# Altium schematic symbol library Device.SchLib: 594 symbols (part 3 of 3)
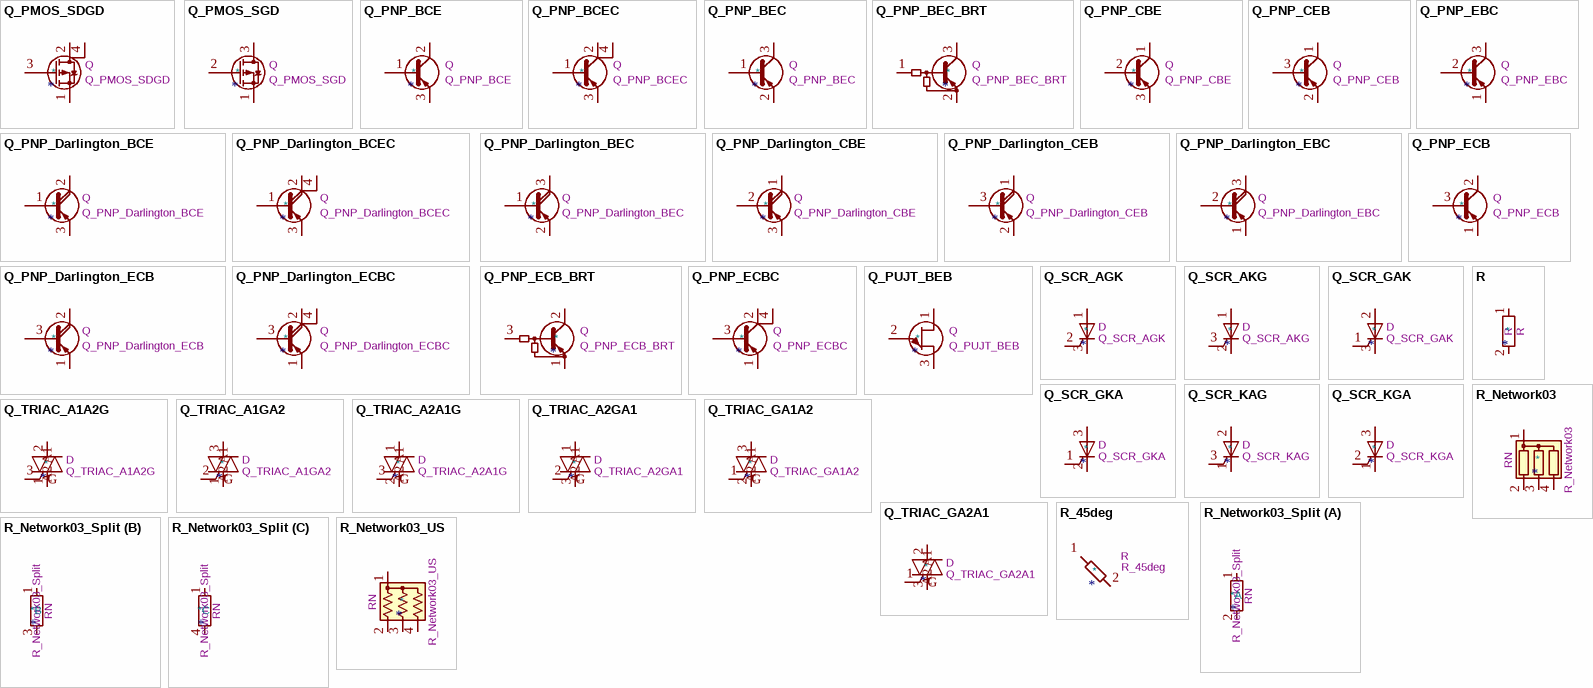
[diagram p21: symbols Q_PMOS_SDGD to R_Network03_US]

## Q_PUJT_BEB
designator *  value Q_PUJT_BEB  Reference: Q
ki_keywords: transistor UJT; ki_description: P-Type unijunction transistor; Datasheet: ~
pins: 1 B2, 2 E, 3 B1

## Q_SCR_AGK
designator *  value Q_SCR_AGK  Reference: D
ki_keywords: SCR thyristor; ki_description: Silicon controlled rectifier, anode/gate/cathode; Datasheet: ~
pins: 1 A, 2 G, 3 K

## Q_SCR_AKG
designator *  value Q_SCR_AKG  Reference: D
ki_keywords: SCR thyristor; ki_description: Silicon controlled rectifier, anode/cathode/gate; Datasheet: ~
pins: 1 A, 2 K, 3 G

## Q_SCR_GAK
designator *  value Q_SCR_GAK  Reference: D
ki_keywords: SCR thyristor; ki_description: Silicon controlled rectifier, gate/anode/cathode; Datasheet: ~
pins: 1 G, 2 A, 3 K

## Q_SCR_GKA
designator *  value Q_SCR_GKA  Reference: D
ki_keywords: SCR thyristor; ki_description: Silicon controlled rectifier, gate/cathode/anode; Datasheet: ~
pins: 1 G, 2 K, 3 A

## Q_SCR_KAG
designator *  value Q_SCR_KAG  Reference: D
ki_keywords: SCR thyristor; ki_description: Silicon controlled rectifier, cathode/anode/gate; Datasheet: ~
pins: 1 K, 2 A, 3 G

## Q_SCR_KGA
designator *  value Q_SCR_KGA  Reference: D
ki_keywords: SCR thyristor; ki_description: Silicon controlled rectifier, cathode/gate/anode; Datasheet: ~
pins: 1 K, 2 G, 3 A

## Q_TRIAC_A1A2G
designator *  value Q_TRIAC_A1A2G  Reference: D
ki_keywords: TRIAC; ki_description: Triode for alternating current, anode1/anode2/gate; Datasheet: ~
pins: 1 A1, 2 A2, 3 G

## Q_TRIAC_A1GA2
designator *  value Q_TRIAC_A1GA2  Reference: D
ki_keywords: TRIAC; ki_description: Triode for alternating current, anode1/gate/anode2; Datasheet: ~
pins: 1 A1, 2 G, 3 A2

## Q_TRIAC_A2A1G
designator *  value Q_TRIAC_A2A1G  Reference: D
ki_keywords: TRIAC; ki_description: Triode for alternating current, anode2/anode1/gate; Datasheet: ~
pins: 1 A2, 2 A1, 3 G

## Q_TRIAC_A2GA1
designator *  value Q_TRIAC_A2GA1  Reference: D
ki_keywords: TRIAC; ki_description: Triode for alternating current, anode2/gate/anode1; Datasheet: ~
pins: 1 A2, 2 G, 3 A1

## Q_TRIAC_GA1A2
designator *  value Q_TRIAC_GA1A2  Reference: D
ki_keywords: TRIAC; ki_description: Triode for alternating current, gate/anode1/anode2; Datasheet: ~
pins: 1 G, 2 A1, 3 A2

## Q_TRIAC_GA2A1
designator *  value Q_TRIAC_GA2A1  Reference: D
ki_keywords: TRIAC; ki_description: Triode for alternating current, gate/anode2/anode1; Datasheet: ~
pins: 1 G, 2 A2, 3 A1

## R
designator *  value R
ki_keywords: R res resistor; ki_description: Resistor; ki_fp_filters: R_*; Reference: R; Datasheet: ~
pins: 1, 2

## R_45deg
designator *  value R_45deg  Reference: R
ki_keywords: R res resistor diagonal; ki_description: Resistor, rotated by 45°; ki_fp_filters: R_*; Datasheet: ~
pins: 1, 2

## R_Network03
designator *  value R_Network03  Reference: RN
ki_keywords: R network star-topology; ki_description: 3 resistor network, star topology, bussed resistors, small symbol; ki_fp_filters: R?Array?SIP*; Footprint: Resistor_THT:R_Array_SIP4; Datasheet: http://www.vishay.com/docs/31509/csc.pdf
pins: 1 common, 2 R1, 3 R2, 4 R3

## R_Network03_Split
designator *  value R_Network03_Split  Reference: RN
ki_keywords: R network star-topology; ki_description: 3 resistor network, star topology, bussed resistors, split; ki_fp_filters: R?Array?SIP*; Footprint: Resistor_THT:R_Array_SIP4; Datasheet: http://www.vishay.com/docs/31509/csc.pdf
part A pins: 1 R1, 2 R1.2
part B pins: 1 R1, 3 R2.2
part C pins: 1 R1, 4 R3.2

## R_Network03_US
designator *  value R_Network03_US  Reference: RN
ki_keywords: R network star-topology; ki_description: 3 resistor network, star topology, bussed resistors, small US symbol; ki_fp_filters: R?Array?SIP*; Footprint: Resistor_THT:R_Array_SIP4; Datasheet: http://www.vishay.com/docs/31509/csc.pdf
pins: 1 common, 2 R1, 3 R2, 4 R3

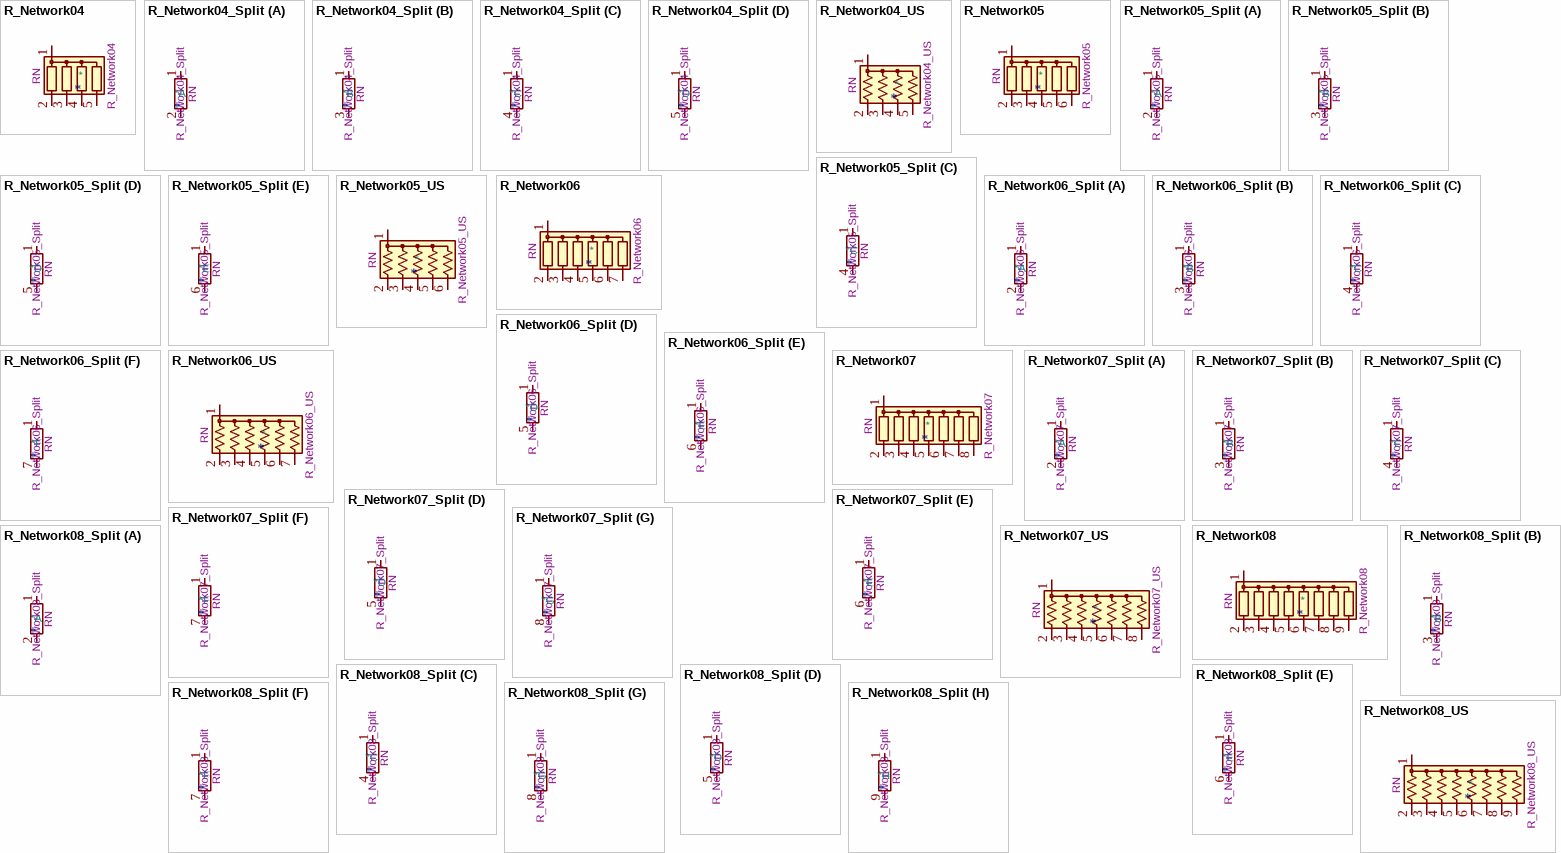
[diagram p13: symbols R_Network04 to R_Network08_US]

## R_Network04
designator *  value R_Network04  Reference: RN
ki_keywords: R network star-topology; ki_description: 4 resistor network, star topology, bussed resistors, small symbol; ki_fp_filters: R?Array?SIP*; Footprint: Resistor_THT:R_Array_SIP5; Datasheet: http://www.vishay.com/docs/31509/csc.pdf
pins: 1 common, 2 R1, 3 R2, 4 R3, 5 R4

## R_Network04_Split
designator *  value R_Network04_Split  Reference: RN
ki_keywords: R network star-topology; ki_description: 4 resistor network, star topology, bussed resistors, split; ki_fp_filters: R?Array?SIP*; Footprint: Resistor_THT:R_Array_SIP5; Datasheet: http://www.vishay.com/docs/31509/csc.pdf
part A pins: 1 R1, 2 R1.2
part B pins: 1 R1, 3 R2.2
part C pins: 1 R1, 4 R3.2
part D pins: 1 R1, 5 R4.2

## R_Network04_US
designator *  value R_Network04_US  Reference: RN
ki_keywords: R network star-topology; ki_description: 4 resistor network, star topology, bussed resistors, small US symbol; ki_fp_filters: R?Array?SIP*; Footprint: Resistor_THT:R_Array_SIP5; Datasheet: http://www.vishay.com/docs/31509/csc.pdf
pins: 1 common, 2 R1, 3 R2, 4 R3, 5 R4

## R_Network05
designator *  value R_Network05  Reference: RN
ki_keywords: R network star-topology; ki_description: 5 resistor network, star topology, bussed resistors, small symbol; ki_fp_filters: R?Array?SIP*; Footprint: Resistor_THT:R_Array_SIP6; Datasheet: http://www.vishay.com/docs/31509/csc.pdf
pins: 1 common, 2 R1, 3 R2, 4 R3, 5 R4, 6 R5

## R_Network05_Split
designator *  value R_Network05_Split  Reference: RN
ki_keywords: R network star-topology; ki_description: 5 resistor network, star topology, bussed resistors, split; ki_fp_filters: R?Array?SIP*; Footprint: Resistor_THT:R_Array_SIP6; Datasheet: http://www.vishay.com/docs/31509/csc.pdf
part A pins: 1 R1, 2 R1.2
part B pins: 1 R1, 3 R2.2
part C pins: 1 R1, 4 R3.2
part D pins: 1 R1, 5 R4.2
part E pins: 1 R1, 6 R5.2

## R_Network05_US
designator *  value R_Network05_US  Reference: RN
ki_keywords: R network star-topology; ki_description: 5 resistor network, star topology, bussed resistors, small US symbol; ki_fp_filters: R?Array?SIP*; Footprint: Resistor_THT:R_Array_SIP6; Datasheet: http://www.vishay.com/docs/31509/csc.pdf
pins: 1 common, 2 R1, 3 R2, 4 R3, 5 R4, 6 R5

## R_Network06
designator *  value R_Network06  Reference: RN
ki_keywords: R network star-topology; ki_description: 6 resistor network, star topology, bussed resistors, small symbol; ki_fp_filters: R?Array?SIP*; Footprint: Resistor_THT:R_Array_SIP7; Datasheet: http://www.vishay.com/docs/31509/csc.pdf
pins: 1 common, 2 R1, 3 R2, 4 R3, 5 R4, 6 R5, 7 R6

## R_Network06_Split
designator *  value R_Network06_Split  Reference: RN
ki_keywords: R network star-topology; ki_description: 6 resistor network, star topology, bussed resistors, split; ki_fp_filters: R?Array?SIP*; Footprint: Resistor_THT:R_Array_SIP7; Datasheet: http://www.vishay.com/docs/31509/csc.pdf
part A pins: 1 R1, 2 R1.2
part B pins: 1 R1, 3 R2.2
part C pins: 1 R1, 4 R3.2
part D pins: 1 R1, 5 R4.2
part E pins: 1 R1, 6 R5.2
part F pins: 1 R1, 7 R6.2

## R_Network06_US
designator *  value R_Network06_US  Reference: RN
ki_keywords: R network star-topology; ki_description: 6 resistor network, star topology, bussed resistors, small US symbol; ki_fp_filters: R?Array?SIP*; Footprint: Resistor_THT:R_Array_SIP7; Datasheet: http://www.vishay.com/docs/31509/csc.pdf
pins: 1 common, 2 R1, 3 R2, 4 R3, 5 R4, 6 R5, 7 R6

## R_Network07
designator *  value R_Network07  Reference: RN
ki_keywords: R network star-topology; ki_description: 7 resistor network, star topology, bussed resistors, small symbol; ki_fp_filters: R?Array?SIP*; Footprint: Resistor_THT:R_Array_SIP8; Datasheet: http://www.vishay.com/docs/31509/csc.pdf
pins: 1 common, 2 R1, 3 R2, 4 R3, 5 R4, 6 R5, 7 R6, 8 R7

## R_Network07_Split
designator *  value R_Network07_Split  Reference: RN
ki_keywords: R network star-topology; ki_description: 7 resistor network, star topology, bussed resistors, split; ki_fp_filters: R?Array?SIP*; Footprint: Resistor_THT:R_Array_SIP8; Datasheet: http://www.vishay.com/docs/31509/csc.pdf
part A pins: 1 R1, 2 R1.2
part B pins: 1 R1, 3 R2.2
part C pins: 1 R1, 4 R3.2
part D pins: 1 R1, 5 R4.2
part E pins: 1 R1, 6 R5.2
part F pins: 1 R1, 7 R6.2
part G pins: 1 R1, 8 R7.2

## R_Network07_US
designator *  value R_Network07_US  Reference: RN
ki_keywords: R network star-topology; ki_description: 7 resistor network, star topology, bussed resistors, small US symbol; ki_fp_filters: R?Array?SIP*; Footprint: Resistor_THT:R_Array_SIP8; Datasheet: http://www.vishay.com/docs/31509/csc.pdf
pins: 1 common, 2 R1, 3 R2, 4 R3, 5 R4, 6 R5, 7 R6, 8 R7

## R_Network08
designator *  value R_Network08  Reference: RN
ki_keywords: R network star-topology; ki_description: 8 resistor network, star topology, bussed resistors, small symbol; ki_fp_filters: R?Array?SIP*; Footprint: Resistor_THT:R_Array_SIP9; Datasheet: http://www.vishay.com/docs/31509/csc.pdf
pins: 1 common, 2 R1, 3 R2, 4 R3, 5 R4, 6 R5, 7 R6, 8 R7, 9 R8

## R_Network08_Split
designator *  value R_Network08_Split  Reference: RN
ki_keywords: R network star-topology; ki_description: 8 resistor network, star topology, bussed resistors, split; ki_fp_filters: R?Array?SIP*; Footprint: Resistor_THT:R_Array_SIP9; Datasheet: http://www.vishay.com/docs/31509/csc.pdf
part A pins: 1 R1, 2 R1.2
part B pins: 1 R1, 3 R2.2
part C pins: 1 R1, 4 R3.2
part D pins: 1 R1, 5 R4.2
part E pins: 1 R1, 6 R5.2
part F pins: 1 R1, 7 R6.2
part G pins: 1 R1, 8 R7.2
part H pins: 1 R1, 9 R8.2

## R_Network08_US
designator *  value R_Network08_US  Reference: RN
ki_keywords: R network star-topology; ki_description: 8 resistor network, star topology, bussed resistors, small US symbol; ki_fp_filters: R?Array?SIP*; Footprint: Resistor_THT:R_Array_SIP9; Datasheet: http://www.vishay.com/docs/31509/csc.pdf
pins: 1 common, 2 R1, 3 R2, 4 R3, 5 R4, 6 R5, 7 R6, 8 R7, 9 R8

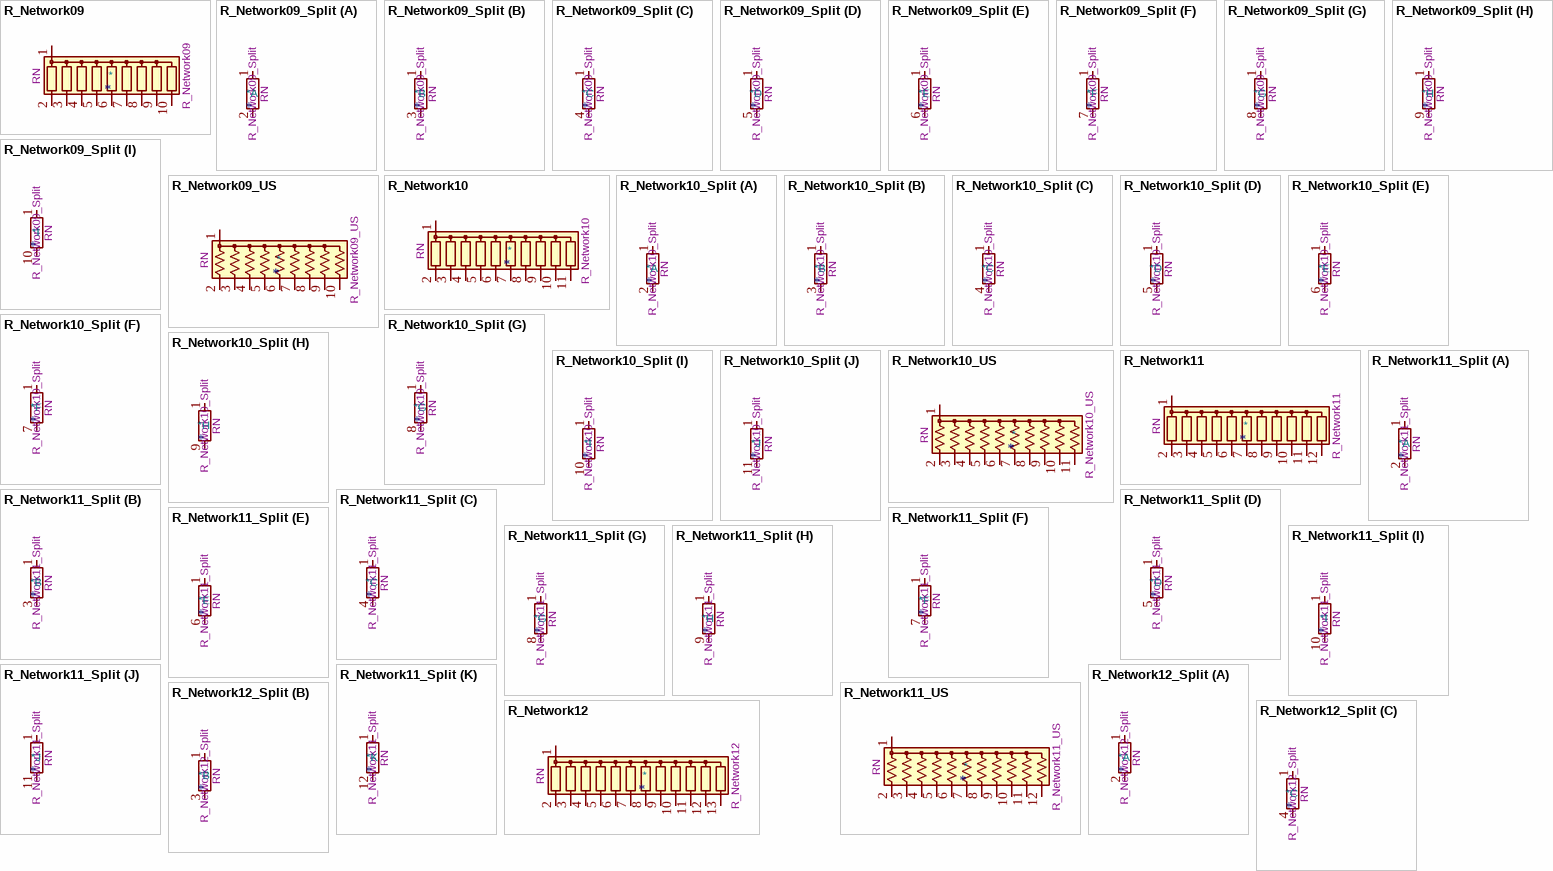
[diagram p14: symbols R_Network09 to R_Network12_Split]

## R_Network09
designator *  value R_Network09  Reference: RN
ki_keywords: R network star-topology; ki_description: 9 resistor network, star topology, bussed resistors, small symbol; ki_fp_filters: R?Array?SIP*; Footprint: Resistor_THT:R_Array_SIP10; Datasheet: http://www.vishay.com/docs/31509/csc.pdf
pins: 1 common, 2 R1, 3 R2, 4 R3, 5 R4, 6 R5, 7 R6, 8 R7, 9 R8, 10 R9

## R_Network09_Split
designator *  value R_Network09_Split  Reference: RN
ki_keywords: R network star-topology; ki_description: 9 resistor network, star topology, bussed resistors, split; ki_fp_filters: R?Array?SIP*; Footprint: Resistor_THT:R_Array_SIP10; Datasheet: http://www.vishay.com/docs/31509/csc.pdf
part A pins: 1 R1, 2 R1.2
part B pins: 1 R1, 3 R2.2
part C pins: 1 R1, 4 R3.2
part D pins: 1 R1, 5 R4.2
part E pins: 1 R1, 6 R5.2
part F pins: 1 R1, 7 R6.2
part G pins: 1 R1, 8 R7.2
part H pins: 1 R1, 9 R8.2
part I pins: 1 R1, 10 R9.2

## R_Network09_US
designator *  value R_Network09_US  Reference: RN
ki_keywords: R network star-topology; ki_description: 9 resistor network, star topology, bussed resistors, small US symbol; ki_fp_filters: R?Array?SIP*; Footprint: Resistor_THT:R_Array_SIP10; Datasheet: http://www.vishay.com/docs/31509/csc.pdf
pins: 1 common, 2 R1, 3 R2, 4 R3, 5 R4, 6 R5, 7 R6, 8 R7, 9 R8, 10 R9

## R_Network10
designator *  value R_Network10  Reference: RN
ki_keywords: R network star-topology; ki_description: 10 resistor network, star topology, bussed resistors, small symbol; ki_fp_filters: R?Array?SIP*; Footprint: Resistor_THT:R_Array_SIP11; Datasheet: http://www.vishay.com/docs/31509/csc.pdf
pins: 1 common, 2 R1, 3 R2, 4 R3, 5 R4, 6 R5, 7 R6, 8 R7, 9 R8, 10 R9, 11 R10

## R_Network10_Split
designator *  value R_Network10_Split  Reference: RN
ki_keywords: R network star-topology; ki_description: 10 resistor network, star topology, bussed resistors, split; ki_fp_filters: R?Array?SIP*; Footprint: Resistor_THT:R_Array_SIP11; Datasheet: http://www.vishay.com/docs/31509/csc.pdf
part A pins: 1 R1, 2 R1.2
part B pins: 1 R1, 3 R2.2
part C pins: 1 R1, 4 R3.2
part D pins: 1 R1, 5 R4.2
part E pins: 1 R1, 6 R5.2
part F pins: 1 R1, 7 R6.2
part G pins: 1 R1, 8 R7.2
part H pins: 1 R1, 9 R8.2
part I pins: 1 R1, 10 R9.2
part J pins: 1 R1, 11 R10.2

## R_Network10_US
designator *  value R_Network10_US  Reference: RN
ki_keywords: R network star-topology; ki_description: 10 resistor network, star topology, bussed resistors, small US symbol; ki_fp_filters: R?Array?SIP*; Footprint: Resistor_THT:R_Array_SIP11; Datasheet: http://www.vishay.com/docs/31509/csc.pdf
pins: 1 common, 2 R1, 3 R2, 4 R3, 5 R4, 6 R5, 7 R6, 8 R7, 9 R8, 10 R9, 11 R10

## R_Network11
designator *  value R_Network11  Reference: RN
ki_keywords: R network star-topology; ki_description: 11 resistor network, star topology, bussed resistors, small symbol; ki_fp_filters: R?Array?SIP*; Footprint: Resistor_THT:R_Array_SIP12; Datasheet: http://www.vishay.com/docs/31509/csc.pdf
pins: 1 common, 2 R1, 3 R2, 4 R3, 5 R4, 6 R5, 7 R6, 8 R7, 9 R8, 10 R9, 11 R10, 12 R11

## R_Network11_Split
designator *  value R_Network11_Split  Reference: RN
ki_keywords: R network star-topology; ki_description: 11 resistor network, star topology, bussed resistors, split; ki_fp_filters: R?Array?SIP*; Footprint: Resistor_THT:R_Array_SIP12; Datasheet: http://www.vishay.com/docs/31509/csc.pdf
part A pins: 1 R1, 2 R1.2
part B pins: 1 R1, 3 R2.2
part C pins: 1 R1, 4 R3.2
part D pins: 1 R1, 5 R4.2
part E pins: 1 R1, 6 R5.2
part F pins: 1 R1, 7 R6.2
part G pins: 1 R1, 8 R7.2
part H pins: 1 R1, 9 R8.2
part I pins: 1 R1, 10 R9.2
part J pins: 1 R1, 11 R10.2
part K pins: 1 R1, 12 R11.2

## R_Network11_US
designator *  value R_Network11_US  Reference: RN
ki_keywords: R network star-topology; ki_description: 11 resistor network, star topology, bussed resistors, small US symbol; ki_fp_filters: R?Array?SIP*; Footprint: Resistor_THT:R_Array_SIP12; Datasheet: http://www.vishay.com/docs/31509/csc.pdf
pins: 1 common, 2 R1, 3 R2, 4 R3, 5 R4, 6 R5, 7 R6, 8 R7, 9 R8, 10 R9, 11 R10, 12 R11

## R_Network12
designator *  value R_Network12  Reference: RN
ki_keywords: R network star-topology; ki_description: 12 resistor network, star topology, bussed resistors, small symbol; ki_fp_filters: R?Array?SIP*; Footprint: Resistor_THT:R_Array_SIP13; Datasheet: http://www.vishay.com/docs/31509/csc.pdf
pins: 1 common, 2 R1, 3 R2, 4 R3, 5 R4, 6 R5, 7 R6, 8 R7, 9 R8, 10 R9, 11 R10, 12 R11, 13 R12

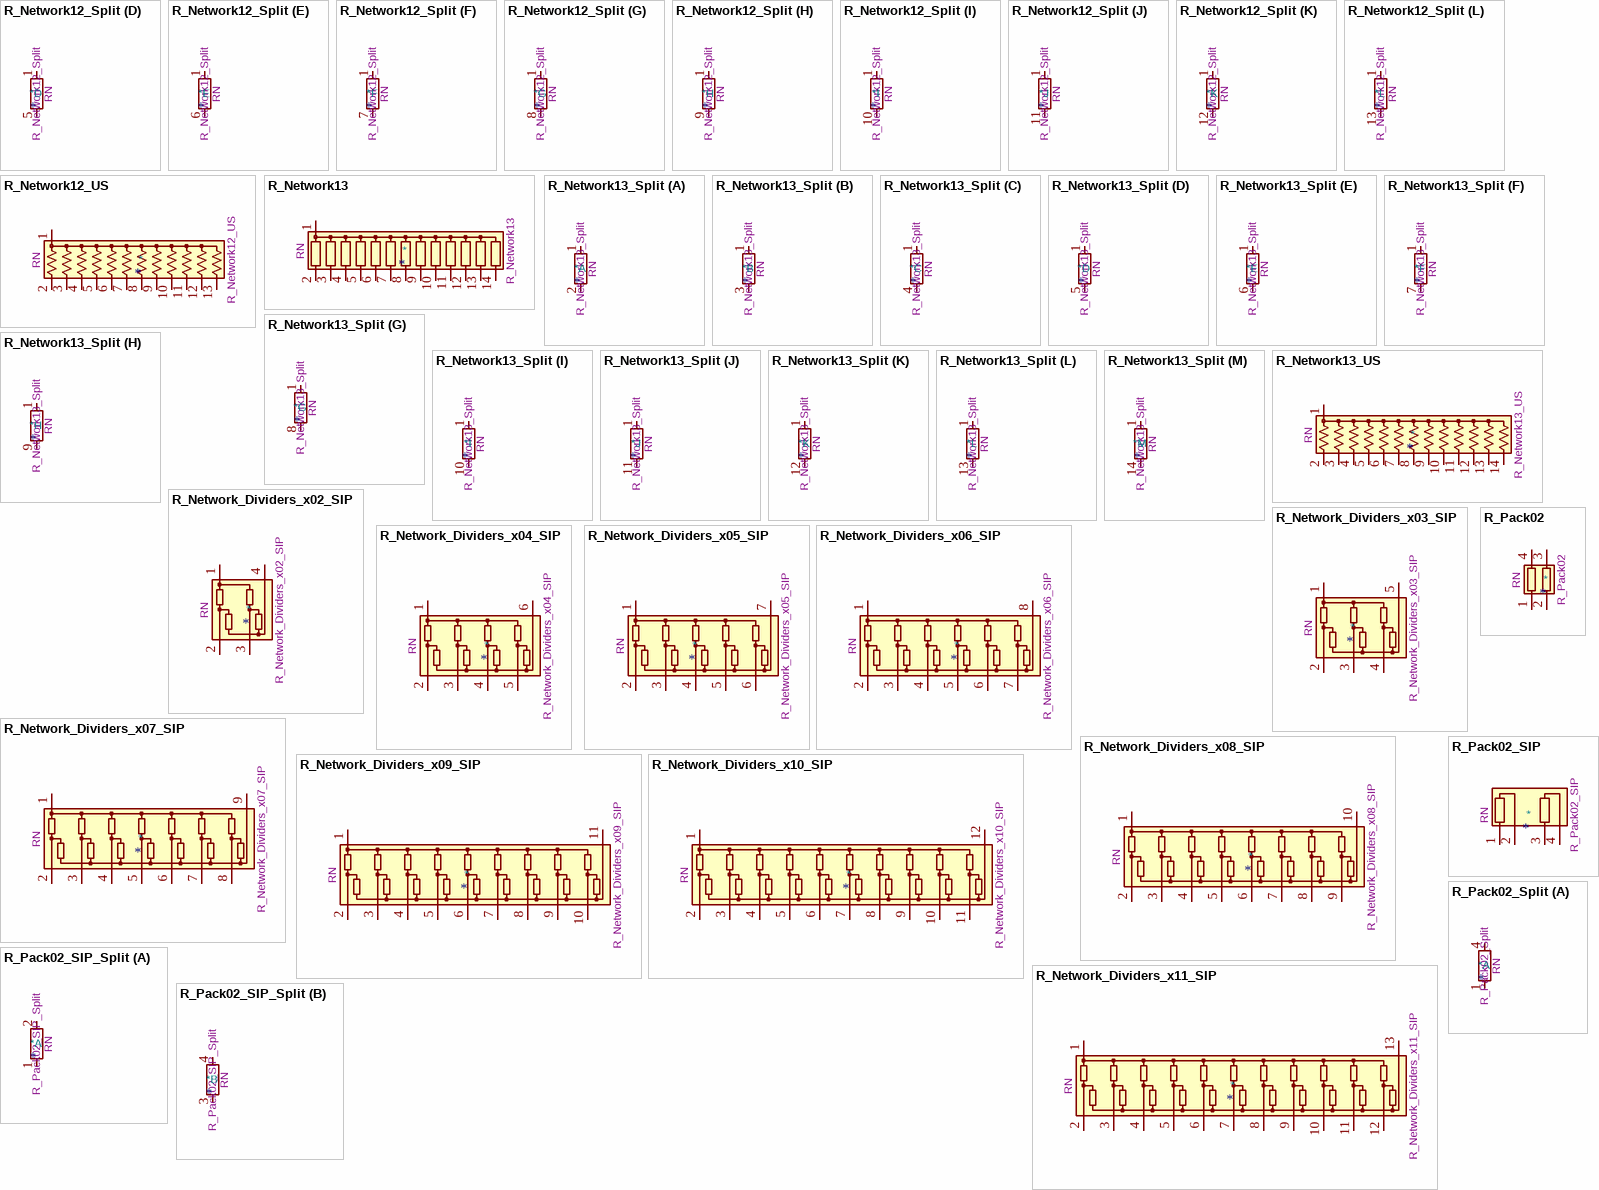
[diagram p15: symbols R_Network12_Split to R_Pack02_Split]

## R_Network12_Split
designator *  value R_Network12_Split  Reference: RN
ki_keywords: R network star-topology; ki_description: 12 resistor network, star topology, bussed resistors, split; ki_fp_filters: R?Array?SIP*; Footprint: Resistor_THT:R_Array_SIP13; Datasheet: http://www.vishay.com/docs/31509/csc.pdf
part A pins: 1 R1, 2 R1.2
part B pins: 1 R1, 3 R2.2
part C pins: 1 R1, 4 R3.2
part D pins: 1 R1, 5 R4.2
part E pins: 1 R1, 6 R5.2
part F pins: 1 R1, 7 R6.2
part G pins: 1 R1, 8 R7.2
part H pins: 1 R1, 9 R8.2
part I pins: 1 R1, 10 R9.2
part J pins: 1 R1, 11 R10.2
part K pins: 1 R1, 12 R11.2
part L pins: 1 R1, 13 R12.2

## R_Network12_US
designator *  value R_Network12_US  Reference: RN
ki_keywords: R network star-topology; ki_description: 12 resistor network, star topology, bussed resistors, small US symbol; ki_fp_filters: R?Array?SIP*; Footprint: Resistor_THT:R_Array_SIP13; Datasheet: http://www.vishay.com/docs/31509/csc.pdf
pins: 1 common, 2 R1, 3 R2, 4 R3, 5 R4, 6 R5, 7 R6, 8 R7, 9 R8, 10 R9, 11 R10, 12 R11, 13 R12

## R_Network13
designator *  value R_Network13  Reference: RN
ki_keywords: R network star-topology; ki_description: 13 resistor network, star topology, bussed resistors, small symbol; ki_fp_filters: R?Array?SIP*; Footprint: Resistor_THT:R_Array_SIP14; Datasheet: http://www.vishay.com/docs/31509/csc.pdf
pins: 1 common, 2 R1, 3 R2, 4 R3, 5 R4, 6 R5, 7 R6, 8 R7, 9 R8, 10 R9, 11 R10, 12 R11, 13 R12, 14 R13

## R_Network13_Split
designator *  value R_Network13_Split  Reference: RN
ki_keywords: R network star-topology; ki_description: 13 resistor network, star topology, bussed resistors, split; ki_fp_filters: R?Array?SIP*; Footprint: Resistor_THT:R_Array_SIP14; Datasheet: http://www.vishay.com/docs/31509/csc.pdf
part A pins: 1 R1, 2 R1.2
part B pins: 1 R1, 3 R2.2
part C pins: 1 R1, 4 R3.2
part D pins: 1 R1, 5 R4.2
part E pins: 1 R1, 6 R5.2
part F pins: 1 R1, 7 R6.2
part G pins: 1 R1, 8 R7.2
part H pins: 1 R1, 9 R8.2
part I pins: 1 R1, 10 R9.2
part J pins: 1 R1, 11 R10.2
part K pins: 1 R1, 12 R11.2
part L pins: 1 R1, 13 R12.2
part M pins: 1 R1, 14 R13.2

## R_Network13_US
designator *  value R_Network13_US  Reference: RN
ki_keywords: R network star-topology; ki_description: 13 resistor network, star topology, bussed resistors, small US symbol; ki_fp_filters: R?Array?SIP*; Footprint: Resistor_THT:R_Array_SIP14; Datasheet: http://www.vishay.com/docs/31509/csc.pdf
pins: 1 common, 2 R1, 3 R2, 4 R3, 5 R4, 6 R5, 7 R6, 8 R7, 9 R8, 10 R9, 11 R10, 12 R11, 13 R12, 14 R13

## R_Network_Dividers_x02_SIP
designator *  value R_Network_Dividers_x02_SIP  Reference: RN
ki_keywords: R network divider topology; ki_description: 2 voltage divider network, dual terminator, SIP package; ki_fp_filters: R?Array?SIP*; Footprint: Resistor_THT:R_Array_SIP4; Datasheet: http://www.vishay.com/docs/31509/csc.pdf
pins: 1 COM1, 2 R1, 3 R2, 4 COM2

## R_Network_Dividers_x03_SIP
designator *  value R_Network_Dividers_x03_SIP  Reference: RN
ki_keywords: R network divider topology; ki_description: 3 voltage divider network, dual terminator, SIP package; ki_fp_filters: R?Array?SIP*; Footprint: Resistor_THT:R_Array_SIP5; Datasheet: http://www.vishay.com/docs/31509/csc.pdf
pins: 1 COM1, 2 R1, 3 R2, 4 R3, 5 COM2

## R_Network_Dividers_x04_SIP
designator *  value R_Network_Dividers_x04_SIP  Reference: RN
ki_keywords: R network divider topology; ki_description: 4 voltage divider network, dual terminator, SIP package; ki_fp_filters: R?Array?SIP*; Footprint: Resistor_THT:R_Array_SIP6; Datasheet: http://www.vishay.com/docs/31509/csc.pdf
pins: 1 COM1, 2 R1, 3 R2, 4 R3, 5 R4, 6 COM2

## R_Network_Dividers_x05_SIP
designator *  value R_Network_Dividers_x05_SIP  Reference: RN
ki_keywords: R network divider topology; ki_description: 5 voltage divider network, dual terminator, SIP package; ki_fp_filters: R?Array?SIP*; Footprint: Resistor_THT:R_Array_SIP7; Datasheet: http://www.vishay.com/docs/31509/csc.pdf
pins: 1 COM1, 2 R1, 3 R2, 4 R3, 5 R4, 6 R5, 7 COM2

## R_Network_Dividers_x06_SIP
designator *  value R_Network_Dividers_x06_SIP  Reference: RN
ki_keywords: R network divider topology; ki_description: 6 voltage divider network, dual terminator, SIP package; ki_fp_filters: R?Array?SIP*; Footprint: Resistor_THT:R_Array_SIP8; Datasheet: http://www.vishay.com/docs/31509/csc.pdf
pins: 1 COM1, 2 R1, 3 R2, 4 R3, 5 R4, 6 R5, 7 R6, 8 COM2

## R_Network_Dividers_x07_SIP
designator *  value R_Network_Dividers_x07_SIP  Reference: RN
ki_keywords: R network divider topology; ki_description: 7 voltage divider network, dual terminator, SIP package; ki_fp_filters: R?Array?SIP*; Footprint: Resistor_THT:R_Array_SIP9; Datasheet: http://www.vishay.com/docs/31509/csc.pdf
pins: 1 COM1, 2 R1, 3 R2, 4 R3, 5 R4, 6 R5, 7 R6, 8 R7, 9 COM2

## R_Network_Dividers_x08_SIP
designator *  value R_Network_Dividers_x08_SIP  Reference: RN
ki_keywords: R network divider topology; ki_description: 8 voltage divider network, dual terminator, SIP package; ki_fp_filters: R?Array?SIP*; Footprint: Resistor_THT:R_Array_SIP10; Datasheet: http://www.vishay.com/docs/31509/csc.pdf
pins: 1 COM1, 2 R1, 3 R2, 4 R3, 5 R4, 6 R5, 7 R6, 8 R7, 9 R8, 10 COM2

## R_Network_Dividers_x09_SIP
designator *  value R_Network_Dividers_x09_SIP  Reference: RN
ki_keywords: R network divider topology; ki_description: 9 voltage divider network, dual terminator, SIP package; ki_fp_filters: R?Array?SIP*; Footprint: Resistor_THT:R_Array_SIP11; Datasheet: http://www.vishay.com/docs/31509/csc.pdf
pins: 1 COM1, 2 R1, 3 R2, 4 R3, 5 R4, 6 R5, 7 R6, 8 R7, 9 R8, 10 R9, 11 COM2

## R_Network_Dividers_x10_SIP
designator *  value R_Network_Dividers_x10_SIP  Reference: RN
ki_keywords: R network divider topology; ki_description: 10 voltage divider network, dual terminator, SIP package; ki_fp_filters: R?Array?SIP*; Footprint: Resistor_THT:R_Array_SIP12; Datasheet: http://www.vishay.com/docs/31509/csc.pdf
pins: 1 COM1, 2 R1, 3 R2, 4 R3, 5 R4, 6 R5, 7 R6, 8 R7, 9 R8, 10 R9, 11 R10, 12 COM2

## R_Network_Dividers_x11_SIP
designator *  value R_Network_Dividers_x11_SIP  Reference: RN
ki_keywords: R network divider topology; ki_description: 11 voltage divider network, dual terminator, SIP package; ki_fp_filters: R?Array?SIP*; Footprint: Resistor_THT:R_Array_SIP13; Datasheet: http://www.vishay.com/docs/31509/csc.pdf
pins: 1 COM1, 2 R1, 3 R2, 4 R3, 5 R4, 6 R5, 7 R6, 8 R7, 9 R8, 10 R9, 11 R10, 12 R11, 13 COM2

## R_Pack02
designator *  value R_Pack02  Reference: RN
ki_keywords: R network parallel topology isolated; ki_description: 2 resistor network, parallel topology; ki_fp_filters: DIP* SOIC* R*Array*Concave* R*Array*Convex*; Datasheet: ~
pins: 1 R1.1, 2 R2.1, 3 R2.2, 4 R1.2

## R_Pack02_SIP
designator *  value R_Pack02_SIP  Reference: RN
ki_keywords: R network parallel topology isolated; ki_description: 2 resistor network, parallel topology, SIP package; ki_fp_filters: R?Array?SIP*; Footprint: Resistor_THT:R_Array_SIP4; Datasheet: http://www.vishay.com/docs/31509/csc.pdf
pins: 1 R1.1, 2 R1.2, 3 R2.1, 4 R2.2

## R_Pack02_SIP_Split
designator *  value R_Pack02_SIP_Split  Reference: RN
ki_keywords: R network parallel topology isolated; ki_description: 2 resistor network, parallel topology, SIP package, split; ki_fp_filters: R?Array?SIP*; Footprint: Resistor_THT:R_Array_SIP4; Datasheet: http://www.vishay.com/docs/31509/csc.pdf
part A pins: 1 R1.1, 2 R1.2
part B pins: 3 R2.1, 4 R2.2

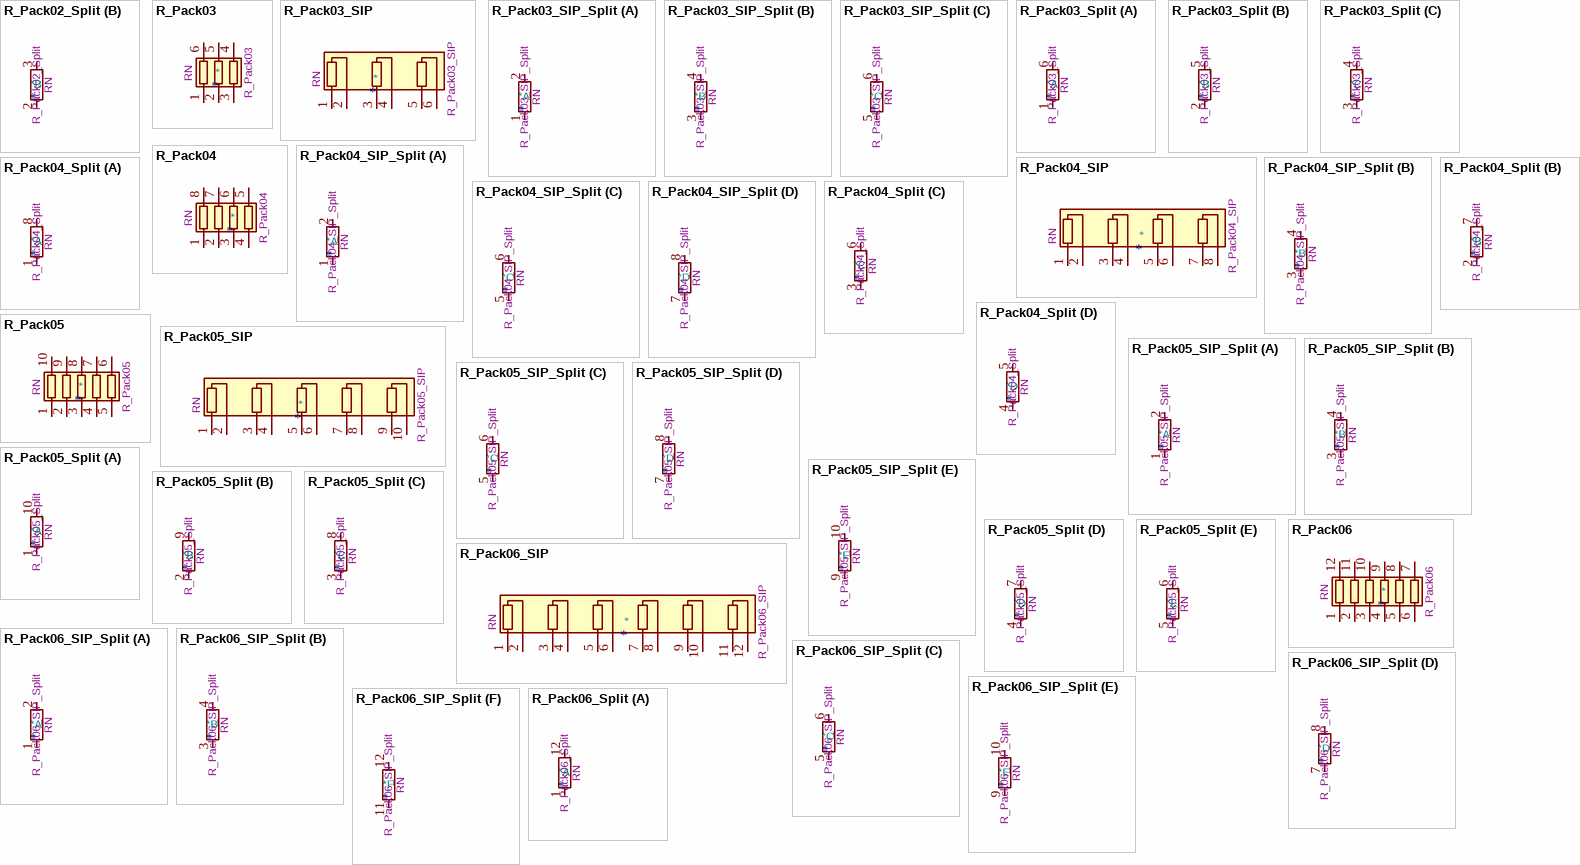
[diagram p16: symbols R_Pack02_Split to R_Pack06_Split]

## R_Pack02_Split
designator *  value R_Pack02_Split  Reference: RN
ki_keywords: R network parallel topology isolated; ki_description: 2 resistor network, parallel topology, split; ki_fp_filters: DIP* SOIC* R*Array*Concave* R*Array*Convex*; Datasheet: ~
part A pins: 1 R1.1, 4 R1.2
part B pins: 2 R2.1, 3 R2.2

## R_Pack03
designator *  value R_Pack03  Reference: RN
ki_keywords: R network parallel topology isolated; ki_description: 3 resistor network, parallel topology; ki_fp_filters: DIP* SOIC* R*Array*Concave* R*Array*Convex*; Datasheet: ~
pins: 1 R1.1, 2 R2.1, 3 R3.1, 4 R3.2, 5 R2.2, 6 R1.2

## R_Pack03_SIP
designator *  value R_Pack03_SIP  Reference: RN
ki_keywords: R network parallel topology isolated; ki_description: 3 resistor network, parallel topology, SIP package; ki_fp_filters: R?Array?SIP*; Footprint: Resistor_THT:R_Array_SIP6; Datasheet: http://www.vishay.com/docs/31509/csc.pdf
pins: 1 R1.1, 2 R1.2, 3 R2.1, 4 R2.2, 5 R3.1, 6 R3.2

## R_Pack03_SIP_Split
designator *  value R_Pack03_SIP_Split  Reference: RN
ki_keywords: R network parallel topology isolated; ki_description: 3 resistor network, parallel topology, SIP package, split; ki_fp_filters: R?Array?SIP*; Footprint: Resistor_THT:R_Array_SIP6; Datasheet: http://www.vishay.com/docs/31509/csc.pdf
part A pins: 1 R1.1, 2 R1.2
part B pins: 3 R2.1, 4 R2.2
part C pins: 5 R3.1, 6 R3.2

## R_Pack03_Split
designator *  value R_Pack03_Split  Reference: RN
ki_keywords: R network parallel topology isolated; ki_description: 3 resistor network, parallel topology, split; ki_fp_filters: DIP* SOIC* R*Array*Concave* R*Array*Convex*; Datasheet: ~
part A pins: 1 R1.1, 6 R1.2
part B pins: 2 R2.1, 5 R2.2
part C pins: 3 R3.1, 4 R3.2

## R_Pack04
designator *  value R_Pack04  Reference: RN
ki_keywords: R network parallel topology isolated; ki_description: 4 resistor network, parallel topology; ki_fp_filters: DIP* SOIC* R*Array*Concave* R*Array*Convex*; Datasheet: ~
pins: 1 R1.1, 2 R2.1, 3 R3.1, 4 R4.1, 5 R4.2, 6 R3.2, 7 R2.2, 8 R1.2

## R_Pack04_SIP
designator *  value R_Pack04_SIP  Reference: RN
ki_keywords: R network parallel topology isolated; ki_description: 4 resistor network, parallel topology, SIP package; ki_fp_filters: R?Array?SIP*; Footprint: Resistor_THT:R_Array_SIP8; Datasheet: http://www.vishay.com/docs/31509/csc.pdf
pins: 1 R1.1, 2 R1.2, 3 R2.1, 4 R2.2, 5 R3.1, 6 R3.2, 7 R4.1, 8 R4.2

## R_Pack04_SIP_Split
designator *  value R_Pack04_SIP_Split  Reference: RN
ki_keywords: R network parallel topology isolated; ki_description: 4 resistor network, parallel topology, SIP package, split; ki_fp_filters: R?Array?SIP*; Footprint: Resistor_THT:R_Array_SIP8; Datasheet: http://www.vishay.com/docs/31509/csc.pdf
part A pins: 1 R1.1, 2 R1.2
part B pins: 3 R2.1, 4 R2.2
part C pins: 5 R3.1, 6 R3.2
part D pins: 7 R4.1, 8 R4.2

## R_Pack04_Split
designator *  value R_Pack04_Split  Reference: RN
ki_keywords: R network parallel topology isolated; ki_description: 4 resistor network, parallel topology, split; ki_fp_filters: DIP* SOIC* R*Array*Concave* R*Array*Convex*; Datasheet: ~
part A pins: 1 R1.1, 8 R1.2
part B pins: 2 R2.1, 7 R2.2
part C pins: 3 R3.1, 6 R3.2
part D pins: 4 R4.1, 5 R4.2

## R_Pack05
designator *  value R_Pack05  Reference: RN
ki_keywords: R network parallel topology isolated; ki_description: 5 resistor network, parallel topology; ki_fp_filters: DIP* SOIC* R*Array*Concave* R*Array*Convex*; Datasheet: ~
pins: 1 R1.1, 2 R2.1, 3 R3.1, 4 R4.1, 5 R5.1, 6 R5.2, 7 R4.2, 8 R3.2, 9 R2.2, 10 R1.2

## R_Pack05_SIP
designator *  value R_Pack05_SIP  Reference: RN
ki_keywords: R network parallel topology isolated; ki_description: 5 resistor network, parallel topology, SIP package; ki_fp_filters: R?Array?SIP*; Footprint: Resistor_THT:R_Array_SIP10; Datasheet: http://www.vishay.com/docs/31509/csc.pdf
pins: 1 R1.1, 2 R1.2, 3 R2.1, 4 R2.2, 5 R3.1, 6 R3.2, 7 R4.1, 8 R4.2, 9 R5.1, 10 R5.2

## R_Pack05_SIP_Split
designator *  value R_Pack05_SIP_Split  Reference: RN
ki_keywords: R network parallel topology isolated; ki_description: 5 resistor network, parallel topology, SIP package, split; ki_fp_filters: R?Array?SIP*; Footprint: Resistor_THT:R_Array_SIP10; Datasheet: http://www.vishay.com/docs/31509/csc.pdf
part A pins: 1 R1.1, 2 R1.2
part B pins: 3 R2.1, 4 R2.2
part C pins: 5 R3.1, 6 R3.2
part D pins: 7 R4.1, 8 R4.2
part E pins: 9 R5.1, 10 R5.2

## R_Pack05_Split
designator *  value R_Pack05_Split  Reference: RN
ki_keywords: R network parallel topology isolated; ki_description: 5 resistor network, parallel topology, split; ki_fp_filters: DIP* SOIC* R*Array*Concave* R*Array*Convex*; Datasheet: ~
part A pins: 1 R1.1, 10 R1.2
part B pins: 2 R2.1, 9 R2.2
part C pins: 3 R3.1, 8 R3.2
part D pins: 4 R4.1, 7 R4.2
part E pins: 5 R5.1, 6 R5.2

## R_Pack06
designator *  value R_Pack06  Reference: RN
ki_keywords: R network parallel topology isolated; ki_description: 6 resistor network, parallel topology; ki_fp_filters: DIP* SOIC* R*Array*Concave* R*Array*Convex*; Datasheet: ~
pins: 1 R1.1, 2 R2.1, 3 R3.1, 4 R4.1, 5 R5.1, 6 R6.1, 7 R6.2, 8 R5.2, 9 R4.2, 10 R3.2, 11 R2.2, 12 R1.2

## R_Pack06_SIP
designator *  value R_Pack06_SIP  Reference: RN
ki_keywords: R network parallel topology isolated; ki_description: 6 resistor network, parallel topology, SIP package; ki_fp_filters: R?Array?SIP*; Footprint: Resistor_THT:R_Array_SIP12; Datasheet: http://www.vishay.com/docs/31509/csc.pdf
pins: 1 R1.1, 2 R1.2, 3 R2.1, 4 R2.2, 5 R3.1, 6 R3.2, 7 R4.1, 8 R4.2, 9 R5.1, 10 R5.2, 11 R6.1, 12 R6.2

## R_Pack06_SIP_Split
designator *  value R_Pack06_SIP_Split  Reference: RN
ki_keywords: R network parallel topology isolated; ki_description: 6 resistor network, parallel topology, SIP package, split; ki_fp_filters: R?Array?SIP*; Footprint: Resistor_THT:R_Array_SIP12; Datasheet: http://www.vishay.com/docs/31509/csc.pdf
part A pins: 1 R1.1, 2 R1.2
part B pins: 3 R2.1, 4 R2.2
part C pins: 5 R3.1, 6 R3.2
part D pins: 7 R4.1, 8 R4.2
part E pins: 9 R5.1, 10 R5.2
part F pins: 11 R6.1, 12 R6.2

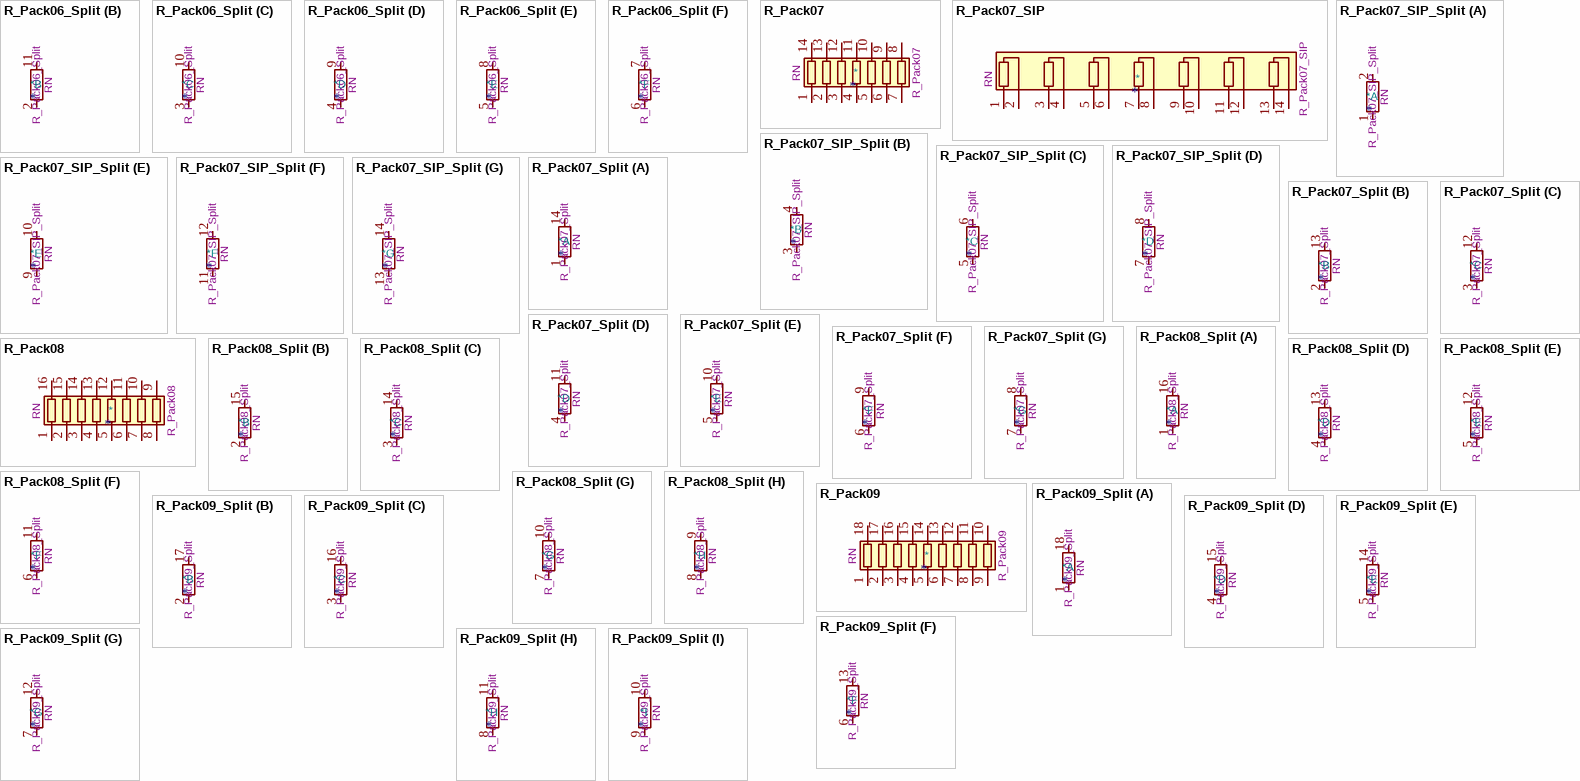
[diagram p17: symbols R_Pack06_Split to R_Pack09_Split]

## R_Pack06_Split
designator *  value R_Pack06_Split  Reference: RN
ki_keywords: R network parallel topology isolated; ki_description: 6 resistor network, parallel topology, split; ki_fp_filters: DIP* SOIC* R*Array*Concave* R*Array*Convex*; Datasheet: ~
part A pins: 1 R1.1, 12 R1.2
part B pins: 2 R2.1, 11 R2.2
part C pins: 3 R3.1, 10 R3.2
part D pins: 4 R4.1, 9 R4.2
part E pins: 5 R5.1, 8 R5.2
part F pins: 6 R6.1, 7 R6.2

## R_Pack07
designator *  value R_Pack07  Reference: RN
ki_keywords: R network parallel topology isolated; ki_description: 7 resistor network, parallel topology; ki_fp_filters: DIP* SOIC* R*Array*Concave* R*Array*Convex*; Datasheet: ~
pins: 1 R1.1, 2 R2.1, 3 R3.1, 4 R4.1, 5 R5.1, 6 R6.1, 7 R7.1, 8 R7.2, 9 R6.2, 10 R5.2, 11 R4.2, 12 R3.2, 13 R2.2, 14 R1.2

## R_Pack07_SIP
designator *  value R_Pack07_SIP  Reference: RN
ki_keywords: R network parallel topology isolated; ki_description: 7 resistor network, parallel topology, SIP package; ki_fp_filters: R?Array?SIP*; Footprint: Resistor_THT:R_Array_SIP14; Datasheet: http://www.vishay.com/docs/31509/csc.pdf
pins: 1 R1.1, 2 R1.2, 3 R2.1, 4 R2.2, 5 R3.1, 6 R3.2, 7 R4.1, 8 R4.2, 9 R5.1, 10 R5.2, 11 R6.1, 12 R6.2, 13 R7.1, 14 R7.2

## R_Pack07_SIP_Split
designator *  value R_Pack07_SIP_Split  Reference: RN
ki_keywords: R network parallel topology isolated; ki_description: 7 resistor network, parallel topology, SIP package, split; ki_fp_filters: R?Array?SIP*; Footprint: Resistor_THT:R_Array_SIP14; Datasheet: http://www.vishay.com/docs/31509/csc.pdf
part A pins: 1 R1.1, 2 R1.2
part B pins: 3 R2.1, 4 R2.2
part C pins: 5 R3.1, 6 R3.2
part D pins: 7 R4.1, 8 R4.2
part E pins: 9 R5.1, 10 R5.2
part F pins: 11 R6.1, 12 R6.2
part G pins: 13 R7.1, 14 R7.2

## R_Pack07_Split
designator *  value R_Pack07_Split  Reference: RN
ki_keywords: R network parallel topology isolated; ki_description: 7 resistor network, parallel topology, split; ki_fp_filters: DIP* SOIC* R*Array*Concave* R*Array*Convex*; Datasheet: ~
part A pins: 1 R1.1, 14 R1.2
part B pins: 2 R2.1, 13 R2.2
part C pins: 3 R3.1, 12 R3.2
part D pins: 4 R4.1, 11 R4.2
part E pins: 5 R5.1, 10 R5.2
part F pins: 6 R6.1, 9 R6.2
part G pins: 7 R7.1, 8 R7.2

## R_Pack08
designator *  value R_Pack08  Reference: RN
ki_keywords: R network parallel topology isolated; ki_description: 8 resistor network, parallel topology; ki_fp_filters: DIP* SOIC* R*Array*Concave* R*Array*Convex*; Datasheet: ~
pins: 1 R1.1, 2 R2.1, 3 R3.1, 4 R4.1, 5 R5.1, 6 R6.1, 7 R7.1, 8 R8.1, 9 R8.2, 10 R7.2, 11 R6.2, 12 R5.2, 13 R4.2, 14 R3.2, 15 R2.2, 16 R1.2

## R_Pack08_Split
designator *  value R_Pack08_Split  Reference: RN
ki_keywords: R network parallel topology isolated; ki_description: 8 resistor network, parallel topology, split; ki_fp_filters: DIP* SOIC* R*Array*Concave* R*Array*Convex*; Datasheet: ~
part A pins: 1 R1.1, 16 R1.2
part B pins: 2 R2.1, 15 R2.2
part C pins: 3 R3.1, 14 R3.2
part D pins: 4 R4.1, 13 R4.2
part E pins: 5 R5.1, 12 R5.2
part F pins: 6 R6.1, 11 R6.2
part G pins: 7 R7.1, 10 R7.2
part H pins: 8 R8.1, 9 R8.2

## R_Pack09
designator *  value R_Pack09  Reference: RN
ki_keywords: R network parallel topology isolated; ki_description: 9 resistor network, parallel topology; ki_fp_filters: DIP* SOIC* R*Array*Concave* R*Array*Convex*; Datasheet: ~
pins: 1 R1.1, 2 R2.1, 3 R3.1, 4 R4.1, 5 R5.1, 6 R6.1, 7 R7.1, 8 R8.1, 9 R9.1, 10 R9.2, 11 R8.2, 12 R7.2, 13 R6.2, 14 R5.2, 15 R4.2, 16 R3.2, 17 R2.2, 18 R1.2

## R_Pack09_Split
designator *  value R_Pack09_Split  Reference: RN
ki_keywords: R network parallel topology isolated; ki_description: 9 resistor network, parallel topology, split; ki_fp_filters: DIP* SOIC* R*Array*Concave* R*Array*Convex*; Datasheet: ~
part A pins: 1 R1.1, 18 R1.2
part B pins: 2 R2.1, 17 R2.2
part C pins: 3 R3.1, 16 R3.2
part D pins: 4 R4.1, 15 R4.2
part E pins: 5 R5.1, 14 R5.2
part F pins: 6 R6.1, 13 R6.2
part G pins: 7 R7.1, 12 R7.2
part H pins: 8 R8.1, 11 R8.2
part I pins: 9 R9.1, 10 R9.2

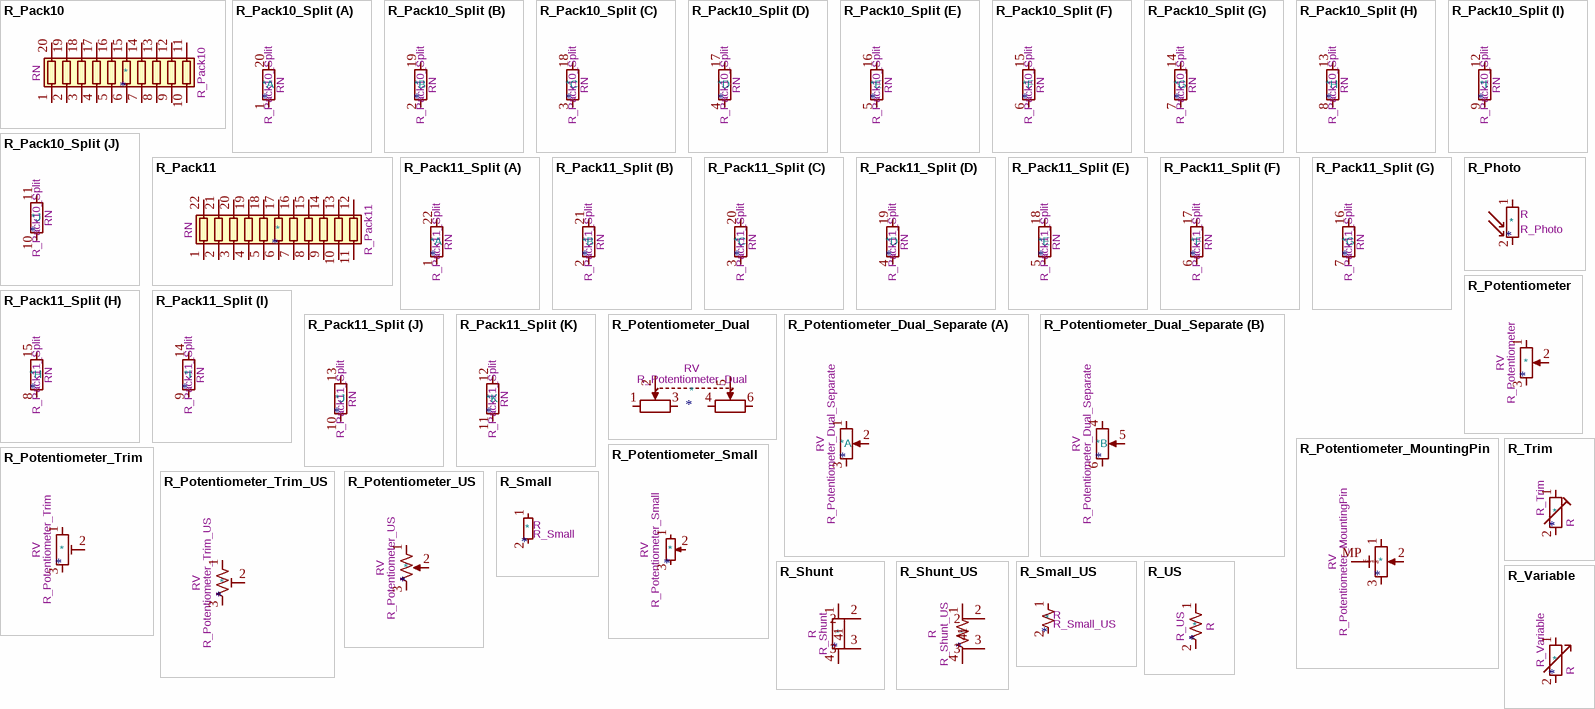
[diagram p18: symbols R_Pack10 to R_Variable]

## R_Pack10
designator *  value R_Pack10  Reference: RN
ki_keywords: R network parallel topology isolated; ki_description: 10 resistor network, parallel topology; ki_fp_filters: DIP* SOIC* R*Array*Concave* R*Array*Convex*; Datasheet: ~
pins: 1 R1.1, 2 R2.1, 3 R3.1, 4 R4.1, 5 R5.1, 6 R6.1, 7 R7.1, 8 R8.1, 9 R9.1, 10 R10.1, 11 R10.2, 12 R9.2, 13 R8.2, 14 R7.2, 15 R6.2, 16 R5.2, 17 R4.2, 18 R3.2, 19 R2.2, 20 R1.2

## R_Pack10_Split
designator *  value R_Pack10_Split  Reference: RN
ki_keywords: R network parallel topology isolated; ki_description: 10 resistor network, parallel topology, split; ki_fp_filters: DIP* SOIC* R*Array*Concave* R*Array*Convex*; Datasheet: ~
part A pins: 1 R1.1, 20 R1.2
part B pins: 2 R2.1, 19 R2.2
part C pins: 3 R3.1, 18 R3.2
part D pins: 4 R4.1, 17 R4.2
part E pins: 5 R5.1, 16 R5.2
part F pins: 6 R6.1, 15 R6.2
part G pins: 7 R7.1, 14 R7.2
part H pins: 8 R8.1, 13 R8.2
part I pins: 9 R9.1, 12 R9.2
part J pins: 10 R10.1, 11 R10.2

## R_Pack11
designator *  value R_Pack11  Reference: RN
ki_keywords: R network parallel topology isolated; ki_description: 11 resistor network, parallel topology; ki_fp_filters: DIP* SOIC* R*Array*Concave* R*Array*Convex*; Datasheet: ~
pins: 1 R1.1, 2 R2.1, 3 R3.1, 4 R4.1, 5 R5.1, 6 R6.1, 7 R7.1, 8 R8.1, 9 R9.1, 10 R10.1, 11 R11.1, 12 R11.2, 13 R10.2, 14 R9.2, 15 R8.2, 16 R7.2, 17 R6.2, 18 R5.2, 19 R4.2, 20 R3.2, 21 R2.2, 22 R1.2

## R_Pack11_Split
designator *  value R_Pack11_Split  Reference: RN
ki_keywords: R network parallel topology isolated; ki_description: 11 resistor network, parallel topology, split; ki_fp_filters: DIP* SOIC* R*Array*Concave* R*Array*Convex*; Datasheet: ~
part A pins: 1 R1.1, 22 R1.2
part B pins: 2 R2.1, 21 R2.2
part C pins: 3 R3.1, 20 R3.2
part D pins: 4 R4.1, 19 R4.2
part E pins: 5 R5.1, 18 R5.2
part F pins: 6 R6.1, 17 R6.2
part G pins: 7 R7.1, 16 R7.2
part H pins: 8 R8.1, 15 R8.2
part I pins: 9 R9.1, 14 R9.2
part J pins: 10 R10.1, 13 R10.2
part K pins: 11 R11.1, 12 R11.2

## R_Photo
designator *  value R_Photo  Reference: R
ki_keywords: resistor variable light sensitive opto LDR; ki_description: Photoresistor; ki_fp_filters: *LDR* R?LDR*; Datasheet: ~
pins: 1, 2

## R_Potentiometer
designator *  value R_Potentiometer  Reference: RV
ki_keywords: resistor variable; ki_description: Potentiometer; ki_fp_filters: Potentiometer*; Datasheet: ~
pins: 1, 2, 3

## R_Potentiometer_Dual
designator *  value R_Potentiometer_Dual  Reference: RV
ki_keywords: resistor variable; ki_description: Dual potentiometer; ki_fp_filters: Potentiometer*; Datasheet: ~
pins: 1, 2, 3, 4, 5, 6

## R_Potentiometer_Dual_Separate
designator *  value R_Potentiometer_Dual_Separate  Reference: RV
ki_keywords: resistor variable; ki_description: Dual potentiometer, separate units; ki_fp_filters: Potentiometer*; Datasheet: ~
part A pins: 1, 2, 3
part B pins: 4, 5, 6

## R_Potentiometer_MountingPin
designator *  value R_Potentiometer_MountingPin  Reference: RV
ki_keywords: resistor variable; ki_description: Potentiometer with a mounting pin; ki_fp_filters: Potentiometer*; Datasheet: ~
pins: 1, 2, 3, MP MountPin
text: Mounting

## R_Potentiometer_Small
designator *  value R_Potentiometer_Small  Reference: RV
ki_keywords: resistor variable; ki_description: Potentiometer; ki_fp_filters: Potentiometer*; Datasheet: ~
pins: 1, 2, 3

## R_Potentiometer_Trim
designator *  value R_Potentiometer_Trim  Reference: RV
ki_keywords: resistor variable trimpot trimmer; ki_description: Trim-potentiometer; ki_fp_filters: Potentiometer*; Datasheet: ~
pins: 1, 2, 3

## R_Potentiometer_Trim_US
designator *  value R_Potentiometer_Trim_US  Reference: RV
ki_keywords: resistor variable trimpot trimmer; ki_description: Trim-potentiometer, US symbol; ki_fp_filters: Potentiometer*; Datasheet: ~
pins: 1, 2, 3

## R_Potentiometer_US
designator *  value R_Potentiometer_US  Reference: RV
ki_keywords: resistor variable; ki_description: Potentiometer, US symbol; ki_fp_filters: Potentiometer*; Datasheet: ~
pins: 1, 2, 3

## R_Shunt
designator *  value R_Shunt  Reference: R
ki_keywords: R res shunt resistor; ki_description: Shunt resistor; ki_fp_filters: R_*Shunt*; Datasheet: ~
pins: 1, 2, 3, 4

## R_Shunt_US
designator *  value R_Shunt_US  Reference: R
ki_keywords: R res shunt resistor; ki_description: Shunt resistor, US symbol; ki_fp_filters: R_*Shunt*; Datasheet: ~
pins: 1, 2, 3, 4

## R_Small
designator *  value R_Small  Reference: R
ki_keywords: R resistor; ki_description: Resistor, small symbol; ki_fp_filters: R_*; Datasheet: ~
pins: 1, 2

## R_Small_US
designator *  value R_Small_US  Reference: R
ki_keywords: r resistor; ki_description: Resistor, small US symbol; ki_fp_filters: R_*; Datasheet: ~
pins: 1, 2

## R_Trim
designator *  value R_Trim  Reference: R
ki_keywords: R res resistor variable potentiometer trimmer; ki_description: Trimmable resistor (preset resistor); ki_fp_filters: R_*; Datasheet: ~
pins: 1, 2

## R_US
designator *  value R_US  Reference: R
ki_keywords: R res resistor; ki_description: Resistor, US symbol; ki_fp_filters: R_*; Datasheet: ~
pins: 1, 2

## R_Variable
designator *  value R_Variable  Reference: R
ki_keywords: R res resistor variable potentiometer rheostat; ki_description: Variable resistor; ki_fp_filters: R_*; Datasheet: ~
pins: 1, 2

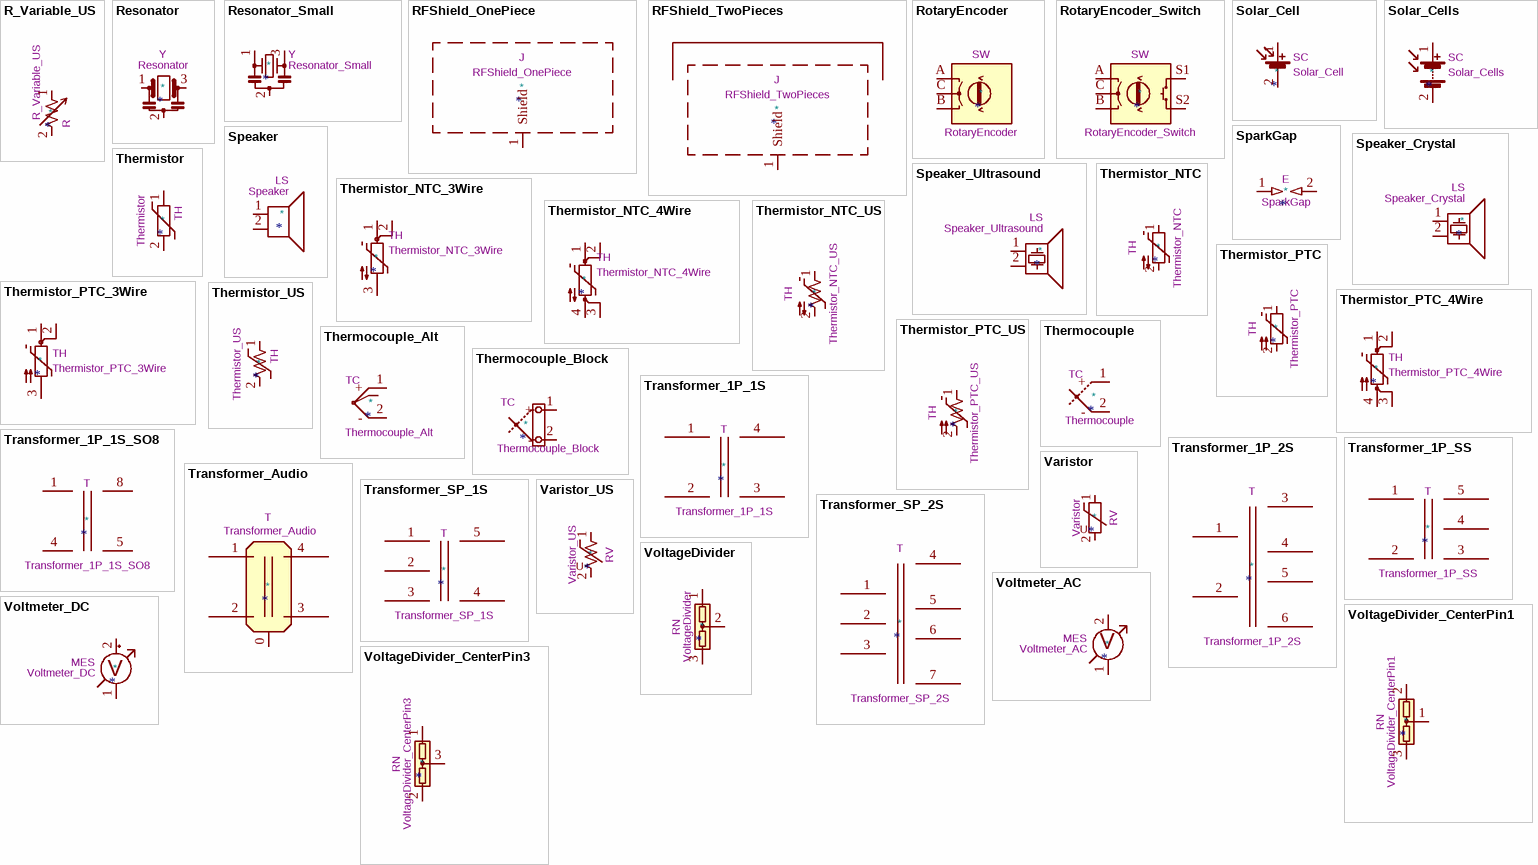
[diagram p19: symbols R_Variable_US to Voltmeter_DC]

## R_Variable_US
designator *  value R_Variable_US  Reference: R
ki_keywords: R res resistor variable potentiometer rheostat; ki_description: Variable resistor, US symbol; ki_fp_filters: R_*; Datasheet: ~
pins: 1, 2

## Resonator
designator *  value Resonator  Reference: Y
ki_keywords: ceramic resonator; ki_description: Three pin ceramic resonator; ki_fp_filters: Filter* Resonator*; Datasheet: ~
pins: 1, 2, 3

## Resonator_Small
designator *  value Resonator_Small  Reference: Y
ki_keywords: ceramic resonator; ki_description: Three pin ceramic resonator, small symbol; ki_fp_filters: Filter* Resonator*; Datasheet: ~
pins: 1, 2, 3

## RFShield_OnePiece
designator *  value RFShield_OnePiece  Reference: J
ki_keywords: RF EMI shielding cabinet; ki_description: One-piece EMI RF shielding cabinet; Datasheet: ~
pins: 1 Shield

## RFShield_TwoPieces
designator *  value RFShield_TwoPieces  Reference: J
ki_keywords: RF EMI shielding cabinet; ki_description: Two-piece EMI RF shielding cabinet; Datasheet: ~
pins: 1 Shield

## RotaryEncoder
designator *  value RotaryEncoder  Reference: SW
ki_keywords: rotary switch encoder; ki_description: Rotary encoder, dual channel, incremental quadrate outputs; ki_fp_filters: RotaryEncoder*; Datasheet: ~
pins: A, B, C

## RotaryEncoder_Switch
designator *  value RotaryEncoder_Switch  Reference: SW
ki_keywords: rotary switch encoder switch push button; ki_description: Rotary encoder, dual channel, incremental quadrate outputs, with switch; ki_fp_filters: RotaryEncoder*Switch*; Datasheet: ~
pins: A, B, C, S1, S2

## Solar_Cell
designator *  value Solar_Cell  Reference: SC
ki_keywords: solar cell; ki_description: Single solar cell; Datasheet: ~
pins: 1 +, 2 -

## Solar_Cells
designator *  value Solar_Cells  Reference: SC
ki_keywords: solar cell; ki_description: Multiple solar cells; Datasheet: ~
pins: 1 +, 2 -

## SparkGap
designator *  value SparkGap  Reference: E
ki_keywords: spark gap ESD electrostatic suppression; ki_description: Spark gap; ki_fp_filters: SG*; Datasheet: ~
pins: 1, 2

## Speaker
designator *  value Speaker  Reference: LS
ki_keywords: speaker sound; Datasheet: ~; ki_description: Speaker
pins: 1, 2

## Speaker_Crystal
designator *  value Speaker_Crystal  Reference: LS
ki_keywords: crystal speaker ultrasonic transducer; ki_description: Crystal speaker/transducer; Datasheet: ~
pins: 1, 2

## Speaker_Ultrasound
designator *  value Speaker_Ultrasound  Reference: LS
ki_keywords: crystal speaker ultrasonic transducer; ki_description: Ultrasonic transducer; Datasheet: ~
pins: 1, 2

## Thermistor
designator *  value Thermistor  Reference: TH
ki_keywords: R res thermistor; ki_description: Temperature dependent resistor; ki_fp_filters: R_*; Datasheet: ~
pins: 1, 2

## Thermistor_NTC
designator *  value Thermistor_NTC  Reference: TH
ki_keywords: thermistor NTC resistor sensor RTD; ki_description: Temperature dependent resistor, negative temperature coefficient; ki_fp_filters: *NTC* *Thermistor* PIN?ARRAY* bornier* *Terminal?Block* R_*; Datasheet: ~
pins: 1, 2

## Thermistor_NTC_3Wire
designator *  value Thermistor_NTC_3Wire  Reference: TH
ki_keywords: thermistor NTC resistor sensor RTD; ki_description: Temperature dependent resistor, negative temperature coefficient, 3-wire interface; ki_fp_filters: *NTC* *Thermistor* PIN?ARRAY* bornier* *Terminal?Block*; Datasheet: ~
pins: 1, 2, 3

## Thermistor_NTC_4Wire
designator *  value Thermistor_NTC_4Wire  Reference: TH
ki_keywords: thermistor NTC resistor sensor RTD; ki_description: Temperature dependent resistor, negative temperature coefficient, 4-wire interface; ki_fp_filters: *NTC* *Thermistor* PIN?ARRAY* bornier* *Terminal?Block*; Datasheet: ~
pins: 1, 2, 3, 4

## Thermistor_NTC_US
designator *  value Thermistor_NTC_US  Reference: TH
ki_keywords: thermistor NTC resistor sensor RTD; ki_description: Temperature dependent resistor, negative temperature coefficient, US symbol; ki_fp_filters: *NTC* *Thermistor* PIN?ARRAY* bornier* *Terminal?Block* R_*; Datasheet: ~
pins: 1, 2

## Thermistor_PTC
designator *  value Thermistor_PTC  Reference: TH
ki_keywords: resistor PTC thermistor sensor RTD; ki_description: Temperature dependent resistor, positive temperature coefficient; ki_fp_filters: *PTC* *Thermistor* PIN?ARRAY* bornier* *Terminal?Block* R_*; Datasheet: ~
pins: 1, 2

## Thermistor_PTC_3Wire
designator *  value Thermistor_PTC_3Wire  Reference: TH
ki_keywords: resistor PTC thermistor sensor RTD; ki_description: Temperature dependent resistor, positive temperature coefficient, 3-wire interface; ki_fp_filters: PIN_ARRAY_3X1 bornier3 TerminalBlock*3pol; Datasheet: ~
pins: 1, 2, 3

## Thermistor_PTC_4Wire
designator *  value Thermistor_PTC_4Wire  Reference: TH
ki_keywords: resistor PTC thermistor sensor RTD; ki_description: Temperature dependent resistor, positive temperature coefficient, 4-wire interface; ki_fp_filters: PIN_ARRAY_4X1 bornier4 TerminalBlock*4pol; Datasheet: ~
pins: 1, 2, 3, 4

## Thermistor_PTC_US
designator *  value Thermistor_PTC_US  Reference: TH
ki_keywords: resistor PTC thermistor sensor RTD; ki_description: Temperature dependent resistor, positive temperature coefficient, US symbol; ki_fp_filters: *PTC* *Thermistor* PIN?ARRAY* bornier* *Terminal?Block* R_*; Datasheet: ~
pins: 1, 2

## Thermistor_US
designator *  value Thermistor_US  Reference: TH
ki_keywords: R res thermistor; ki_description: Thermistor, temperature dependent resistor, US symbol; ki_fp_filters: R_*; Datasheet: ~
pins: 1, 2

## Thermocouple
designator *  value Thermocouple  Reference: TC
ki_keywords: thermocouple temperature sensor cold junction; ki_fp_filters: PIN?ARRAY* bornier* *Terminal?Block* Thermo*Couple*; Datasheet: ~; ki_description: Thermocouple
pins: 1 +, 2 -

## Thermocouple_Alt
designator *  value Thermocouple_Alt  Reference: TC
ki_keywords: thermocouple temperature sensor cold junction; ki_description: Thermocouple with connector block; ki_fp_filters: PIN?ARRAY* bornier* *Terminal?Block* Thermo*Couple*; Datasheet: ~
pins: 1 +, 2 -

## Thermocouple_Block
designator *  value Thermocouple_Block  Reference: TC
ki_keywords: thermocouple temperature sensor cold junction; ki_description: Thermocouple with isothermal block; ki_fp_filters: PIN?ARRAY* bornier* *Terminal?Block* Thermo*Couple*; Datasheet: ~
pins: 1 +, 2 -

## Transformer_1P_1S
designator *  value Transformer_1P_1S  Reference: T
ki_keywords: transformer coil magnet; ki_description: Transformer, single primary, single secondary; Datasheet: ~
pins: 1 AA, 2 AB, 3 SA, 4 SB

## Transformer_1P_1S_SO8
designator *  value Transformer_1P_1S_SO8  Reference: T
ki_keywords: transformer coil magnet; ki_description: Transformer, single primary, single secondary, SO-8 package; Datasheet: ~
pins: 1 AA, 4 AB, 5 SA, 8 SB

## Transformer_1P_2S
designator *  value Transformer_1P_2S  Reference: T
ki_keywords: transformer coil magnet; ki_description: Transformer, single primary, dual secondary; Datasheet: ~
pins: 1 AA, 2 AB, 3 SA, 4 SB, 5 SC, 6 SD

## Transformer_1P_SS
designator *  value Transformer_1P_SS  Reference: T
ki_keywords: transformer coil magnet; ki_description: Transformer, single primary, split secondary; Datasheet: ~
pins: 1 AA, 2 AB, 3 SA, 4 SC, 5 SB

## Transformer_Audio
designator *  value Transformer_Audio  Reference: T
ki_keywords: transformer coil magnet sound; ki_description: Audio transformer; Datasheet: ~
pins: 0, 1 AA, 2 AB, 3 SA, 4 SB

## Transformer_SP_1S
designator *  value Transformer_SP_1S  Reference: T
ki_keywords: transformer coil magnet; ki_description: Transformer, split primary, single secondary; Datasheet: ~
pins: 1 PR1, 2 PM, 3 PR2, 4 S1, 5 S2

## Transformer_SP_2S
designator *  value Transformer_SP_2S  Reference: T
ki_keywords: transformer coil magnet; ki_description: Transformer, split primary, dual secondary; Datasheet: ~
pins: 1 IN+, 2 PM, 3 IN-, 4 OUT1A, 5 OUT1B, 6 OUT2A, 7 OUT2B

## Varistor
designator *  value Varistor  Reference: RV
Sim.Name: kicad_builtin_varistor; Sim.Device: SUBCKT; Sim.Pins: 1=A 2=B; Sim.Params: threshold=1k; Sim.Library: ${KICAD7_SYMBOL_DIR}/Simulation_SPICE.sp; ki_keywords: VDR resistance; ki_description: Voltage dependent resistor; ki_fp_filters: RV_* Varistor*; Datasheet: ~
pins: 1, 2
text: U

## Varistor_US
designator *  value Varistor_US  Reference: RV
Sim.Name: kicad_builtin_varistor; Sim.Device: SUBCKT; Sim.Pins: 1=A 2=B; Sim.Params: threshold=1k; Sim.Library: ${KICAD7_SYMBOL_DIR}/Simulation_SPICE.sp; ki_keywords: VDR resistance; ki_description: Voltage dependent resistor, US symbol; ki_fp_filters: RV_* Varistor*; Datasheet: ~
pins: 1, 2
text: U

## VoltageDivider
designator *  value VoltageDivider  Reference: RN
ki_keywords: R network voltage divider; ki_description: Voltage divider; ki_fp_filters: R?Array?SIP* SOT?23; Datasheet: ~
pins: 1, 2, 3

## VoltageDivider_CenterPin1
designator *  value VoltageDivider_CenterPin1  Reference: RN
ki_keywords: R network voltage divider; ki_description: Voltage divider, center on pin 1; ki_fp_filters: R?Array?SIP* SOT?23; Datasheet: ~
pins: 1, 2, 3

## VoltageDivider_CenterPin3
designator *  value VoltageDivider_CenterPin3  Reference: RN
ki_keywords: R network voltage divider; ki_description: Voltage divider, center on pin 3; ki_fp_filters: R?Array?SIP* SOT?23; Datasheet: ~
pins: 1, 2, 3

## Voltmeter_AC
designator *  value Voltmeter_AC  Reference: MES
ki_keywords: voltmeter AC; ki_description: AC voltmeter; Datasheet: ~
pins: 1, 2
text: V

## Voltmeter_DC
designator *  value Voltmeter_DC  Reference: MES
ki_keywords: voltmeter DC; ki_description: DC voltmeter; Datasheet: ~
pins: 1 -, 2 +
text: V